# Altium schematic symbol library MainLib.schlib: 19 symbols
Pins are listed as number, name and electrical type; pins without a type are passive.

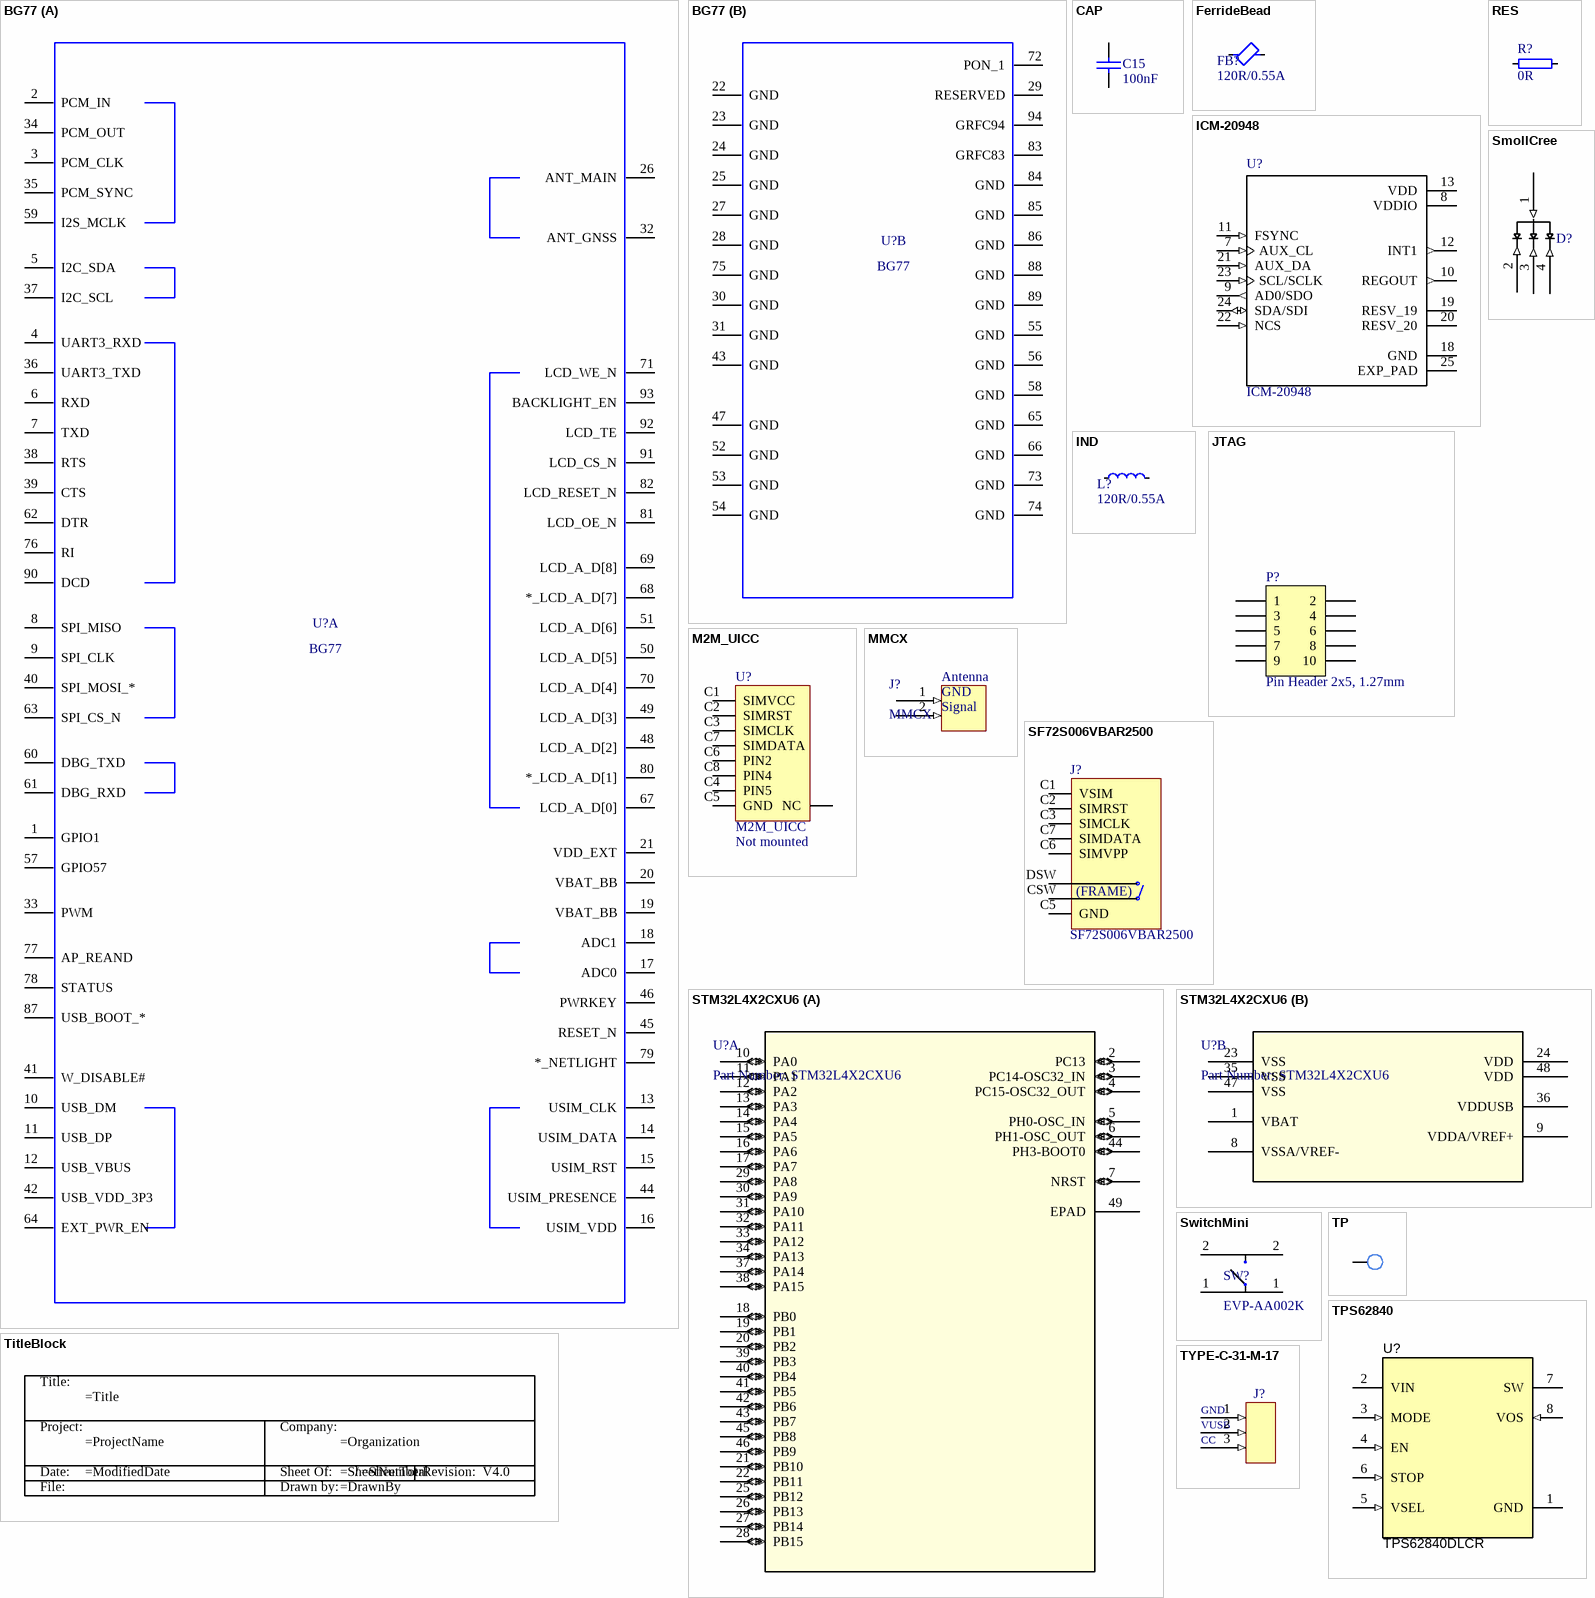
[diagram p0: symbols BG77 to TYPE-C-31-M-17]

## BG77
designator U?
Manufacturer: QUECTEL; Part Description: IC MODULE BG77 LGA-94 14.9x12.9mm H1.7mm RO; Geometry.Height: 1.7mm; Value: BG77; PCB DECAL: BG77
footprint BG77
part A pins: 1 GPIO1, 2 PCM_IN, 3 PCM_CLK, 4 UART3_RXD, 5 I2C_SDA, 6 RXD, 7 TXD, 8 SPI_MISO, 9 SPI_CLK, 10 USB_DM, 11 USB_DP, 12 USB_VBUS, 13 USIM_CLK, 14 USIM_DATA, 15 USIM_RST, 16 USIM_VDD, 17 ADC0, 18 ADC1, 19 VBAT_BB, 20 VBAT_BB, 21 VDD_EXT, 26 ANT_MAIN, 32 ANT_GNSS, 33 PWM, 34 PCM_OUT, 35 PCM_SYNC, 36 UART3_TXD, 37 I2C_SCL, 38 RTS, 39 CTS, 40 SPI_MOSI_*, 41 W_DISABLE#, 42 USB_VDD_3P3, 44 USIM_PRESENCE, 45 RESET_N, 46 PWRKEY, 48 LCD_A_D[2], 49 LCD_A_D[3], 50 LCD_A_D[5], 51 LCD_A_D[6], 57 GPIO57, 59 I2S_MCLK, 60 DBG_TXD, 61 DBG_RXD, 62 DTR, 63 SPI_CS_N, 64 EXT_PWR_EN, 67 LCD_A_D[0], 68 *_LCD_A_D[7], 69 LCD_A_D[8], 70 LCD_A_D[4], 71 LCD_WE_N, 76 RI, 77 AP_REAND, 78 STATUS, 79 *_NETLIGHT, 80 *_LCD_A_D[1], 81 LCD_OE_N, 82 LCD_RESET_N, 87 USB_BOOT_*, 90 DCD, 91 LCD_CS_N, 92 LCD_TE, 93 BACKLIGHT_EN
part B pins: 22 GND, 23 GND, 24 GND, 25 GND, 27 GND, 28 GND, 29 RESERVED, 30 GND, 31 GND, 43 GND, 47 GND, 52 GND, 53 GND, 54 GND, 55 GND, 56 GND, 58 GND, 65 GND, 66 GND, 72 PON_1, 73 GND, 74 GND, 75 GND, 83 GRFC83, 84 GND, 85 GND, 86 GND, 88 GND, 89 GND, 94 GRFC94

## CAP
designator C15, comment 100nF
Capacitor; Value: 100pF; Published: 8-Jun-2000; Revision: July-2002: Re-released for DXP Platform.; Publisher: Altium Limited
footprint C0603
pins: 1, 2

## FerrideBead
designator FB?, comment 120R/0.55A
Ferrite Bead, 120 Ohm @ 100MHz, 500mA, 250 mOhm Max; Part Number: FB0402-120R@100M-500mA; Manufacturer: Murata; Manufacturer Part Number: BLM15AG121SN1D; Part number IPS: N.A.; Note: Chip EMIFIL Inductor Type Chip Ferrite Bead; Artikkelnr Noca: 33029317; Footprint Doc: 0402; LatestRevisionDate: 2014-01-10; Pin Count: 2; Publisher: Nordic Semiconductor; Published: 2011-11-14; Value: 120R/0.55A; ComponentLink1URL: *; ComponentLink1Description: Datasheet; ComponentLink2URL: *; ComponentLink2Description: Supplier link; HelpURL: http://search.murata.co.jp/Ceramy/image/img/PDF/ENG/L0110S0100BLM15A_SN.pdf; Supplier 1: Digi-Key; Supplier Part Number 1: 490-1005-1-ND; Supplier 2: Farnell; Supplier Part Number 2: 151-5760
footprint IND0402
footprint IND0603
pins: 1, 2

## ICM-20948
designator U?
9 Axis=3 Axis Gyro+3 Axis Accel+Compass.; MF: TDK InvenSense; Availability: Unavailable; Package: QFN-24 InvenSense; SnapEDA_Link: https://www.snapeda.com/parts/ICM-20948/TDK%20InvenSense/view-part/?ref=snap; Manufacturer Part Number: ICM-20948; Price: None; Value: *; ComponentLink1Description: Datasheet; ComponentLink1URL: http://www.invensense.com/wp-content/uploads/2016/06/DS-000189-ICM-20948-v1.3.pdf
footprint *QFN40P300X300X105-25N
pins: 7 AUX_CL (in), 8 VDDIO (power), 9 AD0/SDO (out), 10 REGOUT (out), 11 FSYNC (in), 12 INT1 (out), 13 VDD (power), 18 GND (power), 19 RESV_19, 20 RESV_20, 21 AUX_DA (in), 22 NCS (in), 23 SCL/SCLK (in), 24 SDA/SDI (io), 25 EXP_PAD (power)

## IND
designator L?, comment 120R/0.55A
Inductor; Part Number: FB0402-120R@100M-500mA; Manufacturer: Murata; Manufacturer Part Number: BLM15AG121SN1D; Part number IPS: N.A.; Note: Chip EMIFIL Inductor Type Chip Ferrite Bead; Artikkelnr Noca: 33029317; Footprint Doc: 0402; LatestRevisionDate: 2014-01-10; Pin Count: 2; Publisher: Nordic Semiconductor; Published: 2011-11-14; Value: 120R/0.55A; ComponentLink1URL: *; ComponentLink1Description: Datasheet; ComponentLink2URL: *; ComponentLink2Description: Supplier link; HelpURL: http://search.murata.co.jp/Ceramy/image/img/PDF/ENG/L0110S0100BLM15A_SN.pdf; Supplier 1: Digi-Key; Supplier Part Number 1: 490-1005-1-ND; Supplier 2: Farnell; Supplier Part Number 2: 151-5760
footprint IND0402
footprint IND0603
pins: 1, 2

## JTAG
designator P?, comment Pin Header 2x5, 1.27mm
Pin Header 2x5, 1.27mm (50mil), SMD, Keying Shroud; Part Number: Pin Header 2x5 SMD, 1.27mm, KS; Manufacturer: W-CON; Manufacturer Part Number: 3132-10MS0BK00R1; Part number IPS: N.A.; Artikkelnr Noca: 55010009; Footprint Doc: HDR_2x5-SMD-1.27mm; LatestRevisionDate: 2016-04-21; Pin Count: 10; Publisher: Nordic Semiconductor; Published: 2016-01-22; Value: Pin Header 2x5, 1.27mm; Note: *; ComponentLink1URL: *; ComponentLink1Description: Datasheet; ComponentLink2URL: *; ComponentLink2Description: Supplier link; HelpURL: \\hizz\pro\app9717\Datasheet\connectores\W-CON\3132-XXMXXBK00XX.pdf; Supplier 1: Cabcon; Supplier Part Number 1: 3132-10MS0BK00R1; Supplier 2: Samtec; Supplier Part Number 2: FTSH-105-01-F-DV-K
footprint HDR_2x5-SMD-1.27mm-K_2
pins: 1, 2, 3, 4, 5, 6, 7, 8, 9, 10

## M2M_UICC
designator U?  Assembly: Not mounted
IC, M2M UICC; Part Number: M2M_UICC; Manufacturer: *; Manufacturer Part Number: *; Datasheet: *; Pin Count: 8; Value: M2M UICC; Supplier: Nordic Semiconductor; Supplier part number: *; 2nd Manufacturer: *; 2nd Manufacturer Part Number: *; 3rd Manufacturer: *; 3rd Manufacturer Part Number: *; Footprint Doc: 6.0*5.0; Part number Sanmina: *
footprint M2M_UICC
pins: C1 SIMVCC, C2 SIMRST, C3 SIMCLK, C4 PIN5, C5 GND, C6 PIN2, C7 SIMDATA, C8 PIN4, NC

## MMCX
designator J?
85_MMCX-S50-0-55/119_OM; ComponentLink1Description: Datasheet; ComponentLink1URL: https://ecatalog.hubersuhner.com/media/documents/outline1/en/pdf/84021646
footprint MMCX
pins: 1 (in), 2 (in)
text: Antenna; GND; Signal

## RES
designator R?, comment 0R
Resistor, ±5%, 0.05W; Part Number: R0201-0R; Part number IPS: 00000003245; Note: Chip Res 5%; Artikkelnr Noca: N.A.; Manufacturer: *; Manufacturer Part Number: *; ComponentLink1URL: *; ComponentLink1Description: Datasheet; ComponentLink2URL: *; ComponentLink2Description: Supplier link; HelpURL: *; Footprint Doc: 0201; LatestRevisionDate: 2017-11-09; Pin Count: 2; Publisher: Nordic Semiconductor; Published: 2014-11-13; Value: 0R; Supplier 1: *; Supplier Part Number 1: *; Supplier 2: *; Supplier Part Number 2: *
footprint RES0603R
footprint RES1206R
footprint RES0402
pins: 1, 2

## SF72S006VBAR2500
designator J?
n 8 (6 + 2) Position Card Connector NANO SIM Surface Mount, Right Angle Gold; Manufacturer: JAE; Artikkelnr Noca: N.A.; Part Number: SF72S006VBAR2500; Manufacturer Part Number: SF72S006VBAR2500; Footprint Doc: SF72S006VBAR2500; LatestRevisionDate: 2016-09-09; Pin Count: 8; Publisher: Nordic Semiconductor; Published: 2016-09-09; Value: SF72S006VBAR2500; Note: *; Part number IPS: N.A.; ComponentLink1URL: *; ComponentLink1Description: Datasheet; ComponentLink2URL: *; ComponentLink2Description: Supplier link; HelpURL: http://jae-connectors.com/en/pdf/MB-0282-1E_SF72.pdf; Supplier 1: Digi-Key; Supplier Part Number 1: 670-2799-1-ND; Supplier 2: Mouser; Supplier Part Number 2: 656-SF72S006VBAR2500
footprint SF72S006VBAR2500
pins: 0 GND hidden to GND, C1 VSIM, C2 SIMRST, C3 SIMCLK, C5 GND, C6 SIMVPP, C7 SIMDATA, CSW, DSW
text: (FRAME)

## SmollCree
designator D?, comment CLMVC-FKA-CLBDGL7LBB79353  (value not drawn)
1. common anode 2. blue 3. green 4. red; ComponentLink1Description: Mouser; ComponentLink1URL: https://no.mouser.com/ProductDetail/Cree-Inc/CLMVC-FKA-CLBDGL7LBB79353?qs=fSnNYG2PaKLnACIKsEWrKA%3D%3D
footprint SmollLedCree (CLMVC-FKA)
pins: 1 (in) "Vp+", 2 Blue (in), 3 (in) "Green", 4 (in) "Red"

## STM32L4X2CXU6
designator U?, comment Part Number: STM32L4X2CXU6
No Description Available; Vendor: STMicroelectronics; Manufacturer_Part_Number: STM32L4X2CXU6; Copyright: Copyright (C) 2016 Accelerated Designs. All rights reserved; RefDes: RefDes; Type: DEV; Value: Value
footprint UFQFPN48-7x7mm
part A pins: 2 PC13 (io), 3 PC14-OSC32_IN (io), 4 PC15-OSC32_OUT (io), 5 PH0-OSC_IN (io), 6 PH1-OSC_OUT (io), 7 NRST (io), 10 PA0 (io), 11 PA1 (io), 12 PA2 (io), 13 PA3 (io), 14 PA4 (io), 15 PA5 (io), 16 PA6 (io), 17 PA7 (io), 18 PB0 (io), 19 PB1 (io), 20 PB2 (io), 21 PB10 (io), 22 PB11 (io), 25 PB12 (io), 26 PB13 (io), 27 PB14 (io), 28 PB15 (io), 29 PA8 (io), 30 PA9 (io), 31 PA10 (io), 32 PA11 (io), 33 PA12 (io), 34 PA13 (io), 37 PA14 (io), 38 PA15 (io), 39 PB3 (io), 40 PB4 (io), 41 PB5 (io), 42 PB6 (io), 43 PB7 (io), 44 PH3-BOOT0 (io), 45 PB8 (io), 46 PB9 (io), 49 EPAD
part B pins: 1 VBAT (power), 8 VSSA/VREF- (power), 9 VDDA/VREF+ (power), 23 VSS (power), 24 VDD (power), 35 VSS (power), 36 VDDUSB (power), 47 VSS (power), 48 VDD (power)

## SwitchMini
designator SW?, comment EVP-AA002K
EVPAA002K = 1.0 N, EVPAAU02Q = 7.0 N
footprint MiniSwitch
pins: 1 18 (power), 1 18 (power), 2 18 (power), 2 18 (power)

## TitleBlock
designator *  (value not drawn)  (graphical)
text: Title:; Project:; Company:; Date:; Sheet Of:; /; Revision:; V4.0; File:; Drawn by:

## TP
designator *  (value not drawn)
footprint PowerPad
footprint TP_SMD_Ø1.0mm
pins: 1

## TPS62840
designator U?, comment TPS62840DLCR
Ultra low IQ Step Down Converter, DLC0008A (VSON-HR-8); Alternate Manufacturer: Texas Instruments; SizeAreaWB_mm2: 7.5; SizeZ_mm: 1; SizeX_mm: 1.5; SizeY_mm: 2; SizeArea_mm2: 3; CompType: IC; AEC Qualified: N; AEC Category: Q200; ComponentLink1URL: http://www.ti.com/lit/ds/symlink/tps62840.pdf; PackageDescription: VSON-HR-8; MountType: SMT; ComponentLink2URL: http://www.ti.com/product/tps62840; ComponentLink3Description: Online Datasheet; ComponentLink2Description: Product Folder; Manufacturer: Texas Instruments; ComponentLink3URL: http://www.ti.com/product/tps62840/datasheet; PackageReference: DLC0008A; ComponentLink1Description: Datasheet Link; Operating Temperature Range: -40 to 125 C; PartNumber: TPS62840DLCR
footprint TPS62840
pins: 1 GND (power), 2 VIN (power), 3 MODE (in), 4 EN (in), 5 VSEL (in), 6 STOP (in), 7 SW (power), 8 VOS (in)

## TYPE-C-31-M-17
designator J?, comment USB C  (value not drawn)
Manufacturer Part Number: TYPE-C-31-M-17
footprint TYPE-C-31-M-17
pins: 1 (in), 2 (in), 3 (in)
text: GND; VUSB; CC

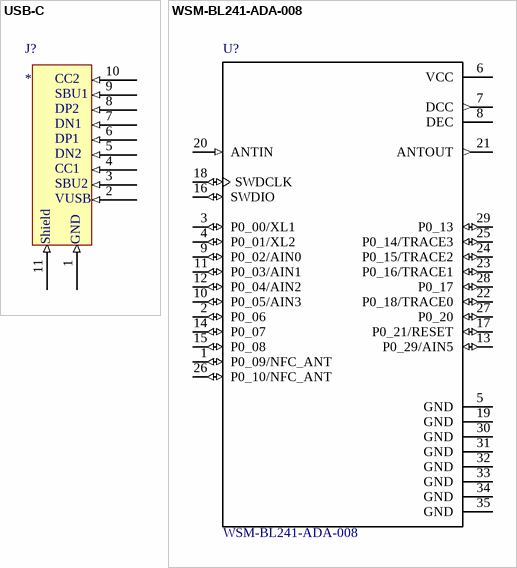
[diagram p1: symbols USB-C to WSM-BL241-ADA-008]

## USB-C
designator J?
footprint TYPE-C-31-M-12
pins: 1 (in), 2 (in), 3 (in), 4 (in), 5 (in), 6 (in), 7 (in), 8 (in), 9 (in), 10 (in), 11 (in)
text: CC2; SBU1; DP2; DN1; DP1; DN2; CC1; SBU2; VUSB; Shield; GND

## WSM-BL241-ADA-008
designator U?
Bluetooth Low Energy/NFC module 1Mbps LGA; MF: Murata Electronics; Price: None; SnapEDA_Link: https://www.snapeda.com/parts/WSM-BL241-ADA-008/Murata%20Electronics%20North%20America/view-part/?ref=snap; Availability: Unavailable; Package: Module Murata; MP: WSM-BL241-ADA-008; Value: *
footprint Murata_WSM-BL241-ADA-008
pins: 1 P0_09/NFC_ANT (io), 2 P0_06 (io), 3 P0_00/XL1 (io), 4 P0_01/XL2 (io), 5 GND (power), 6 VCC (power), 7 DCC (out), 8 DEC, 9 P0_02/AIN0 (io), 10 P0_05/AIN3 (io), 11 P0_03/AIN1 (io), 12 P0_04/AIN2 (io), 13 P0_29/AIN5 (io), 14 P0_07 (io), 15 P0_08 (io), 16 SWDIO (io), 17 P0_21/RESET (io), 18 SWDCLK (io), 19 GND (power), 20 ANTIN (in), 21 ANTOUT (out), 22 P0_18/TRACE0 (io), 23 P0_16/TRACE1 (io), 24 P0_15/TRACE2 (io), 25 P0_14/TRACE3 (io), 26 P0_10/NFC_ANT (io), 27 P0_20 (io), 28 P0_17 (io), 29 P0_13 (io), 30 GND (power), 31 GND (power), 32 GND (power), 33 GND (power), 34 GND (power), 35 GND (power)